# Altium footprint library DF40C(2.0)-70DS-0.4V(51).PcbLib: 1 footprints
Each footprint in its own frame and in the unit in brackets; x right, y up, seen from the top. Pads: shape width x height; smd on the part's side, far side on the other; paste and mask are expansions set on the pad; w line width, h text height; cw(c..) or ccw(c..) is an arc to the next point about the centre after c.
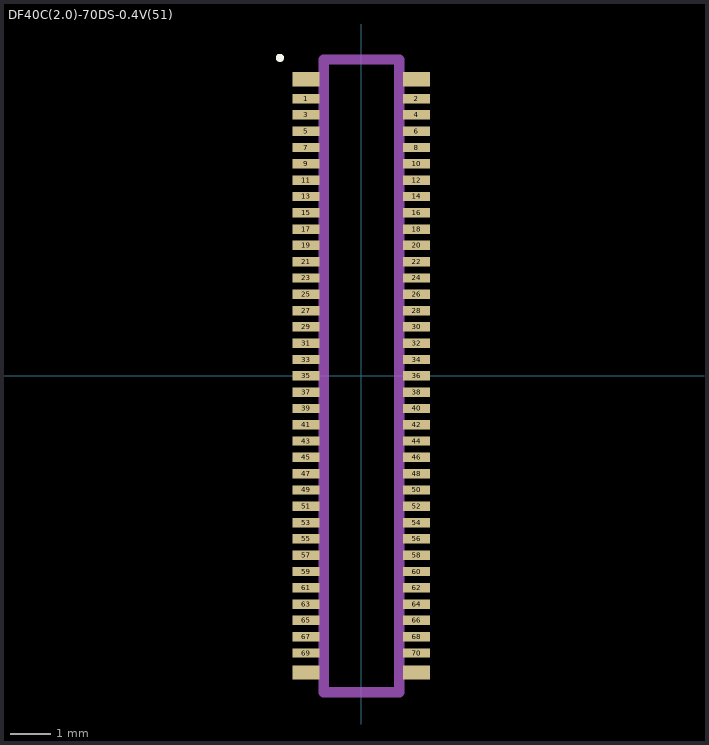
[diagram p0: the footprint, top view; thin cyan lines are the x and y axes]

## DF40C(2.0)-70DS-0.4V(51) [mm]
pads (74):
  rect 0.66x0.23 smd: 1(-1.355,6.8) 2(1.355,6.8) 3(-1.355,6.4) 4(1.355,6.4) 5(-1.355,6) 6(1.355,6) 7(-1.355,5.6) 8(1.355,5.6) 9(-1.355,5.2) 10(1.355,5.2) 11(-1.355,4.8) 12(1.355,4.8) 13(-1.355,4.4) 14(1.355,4.4) 15(-1.355,4) 16(1.355,4) 17(-1.355,3.6) 18(1.355,3.6) 19(-1.355,3.2) 20(1.355,3.2) 21(-1.355,2.8) 22(1.355,2.8) 23(-1.355,2.4) 24(1.355,2.4) 25(-1.355,2) 26(1.355,2) 27(-1.355,1.6) 28(1.355,1.6) 29(-1.355,1.2) 30(1.355,1.2) 31(-1.355,0.8) 32(1.355,0.8) 33(-1.355,0.4) 34(1.355,0.4) 35(-1.355,0) 36(1.355,0) 37(-1.355,-0.4) 38(1.355,-0.4) 39(-1.355,-0.8) 40(1.355,-0.8) 41(-1.355,-1.2) 42(1.355,-1.2) 43(-1.355,-1.6) 44(1.355,-1.6) 45(-1.355,-2) 46(1.355,-2) 47(-1.355,-2.4) 48(1.355,-2.4) 49(-1.355,-2.8) 50(1.355,-2.8) 51(-1.355,-3.2) 52(1.355,-3.2) 53(-1.355,-3.6) 54(1.355,-3.6) 55(-1.355,-4) 56(1.355,-4) 57(-1.355,-4.4) 58(1.355,-4.4) 59(-1.355,-4.8) 60(1.355,-4.8) 61(-1.355,-5.2) 62(1.355,-5.2) 63(-1.355,-5.6) 64(1.355,-5.6) 65(-1.355,-6) 66(1.355,-6) 67(-1.355,-6.4) 68(1.355,-6.4) 69(-1.355,-6.8) 70(1.355,-6.8)
  rect 0.66x0.35 smd: ""(-1.355,-7.275) ""(-1.355,7.275) ""(1.355,-7.275) ""(1.355,7.275)
Top Overlay:
  circle w0.1: c-2,7.8 r0.05
Top Comp Body:
  lines w0.254: -0.925,-7.76 -0.925,7.76 0.925,7.76 0.925,-7.76 -0.925,-7.76
3D body "DF40C(2.0)-70DS.stp": height 1.9, standoff -0.05, extent -1.69,-8.285 1.69,8.315